# Altium footprint library JP.PcbLib: 182 footprints (part 11 of 12)
Each footprint in its own frame and in the unit in brackets; x right, y up, seen from the top. Pads: shape width x height; smd on the part's side, far side on the other; paste and mask are expansions set on the pad; w line width, h text height; cw(c..) or ccw(c..) is an arc to the next point about the centre after c.
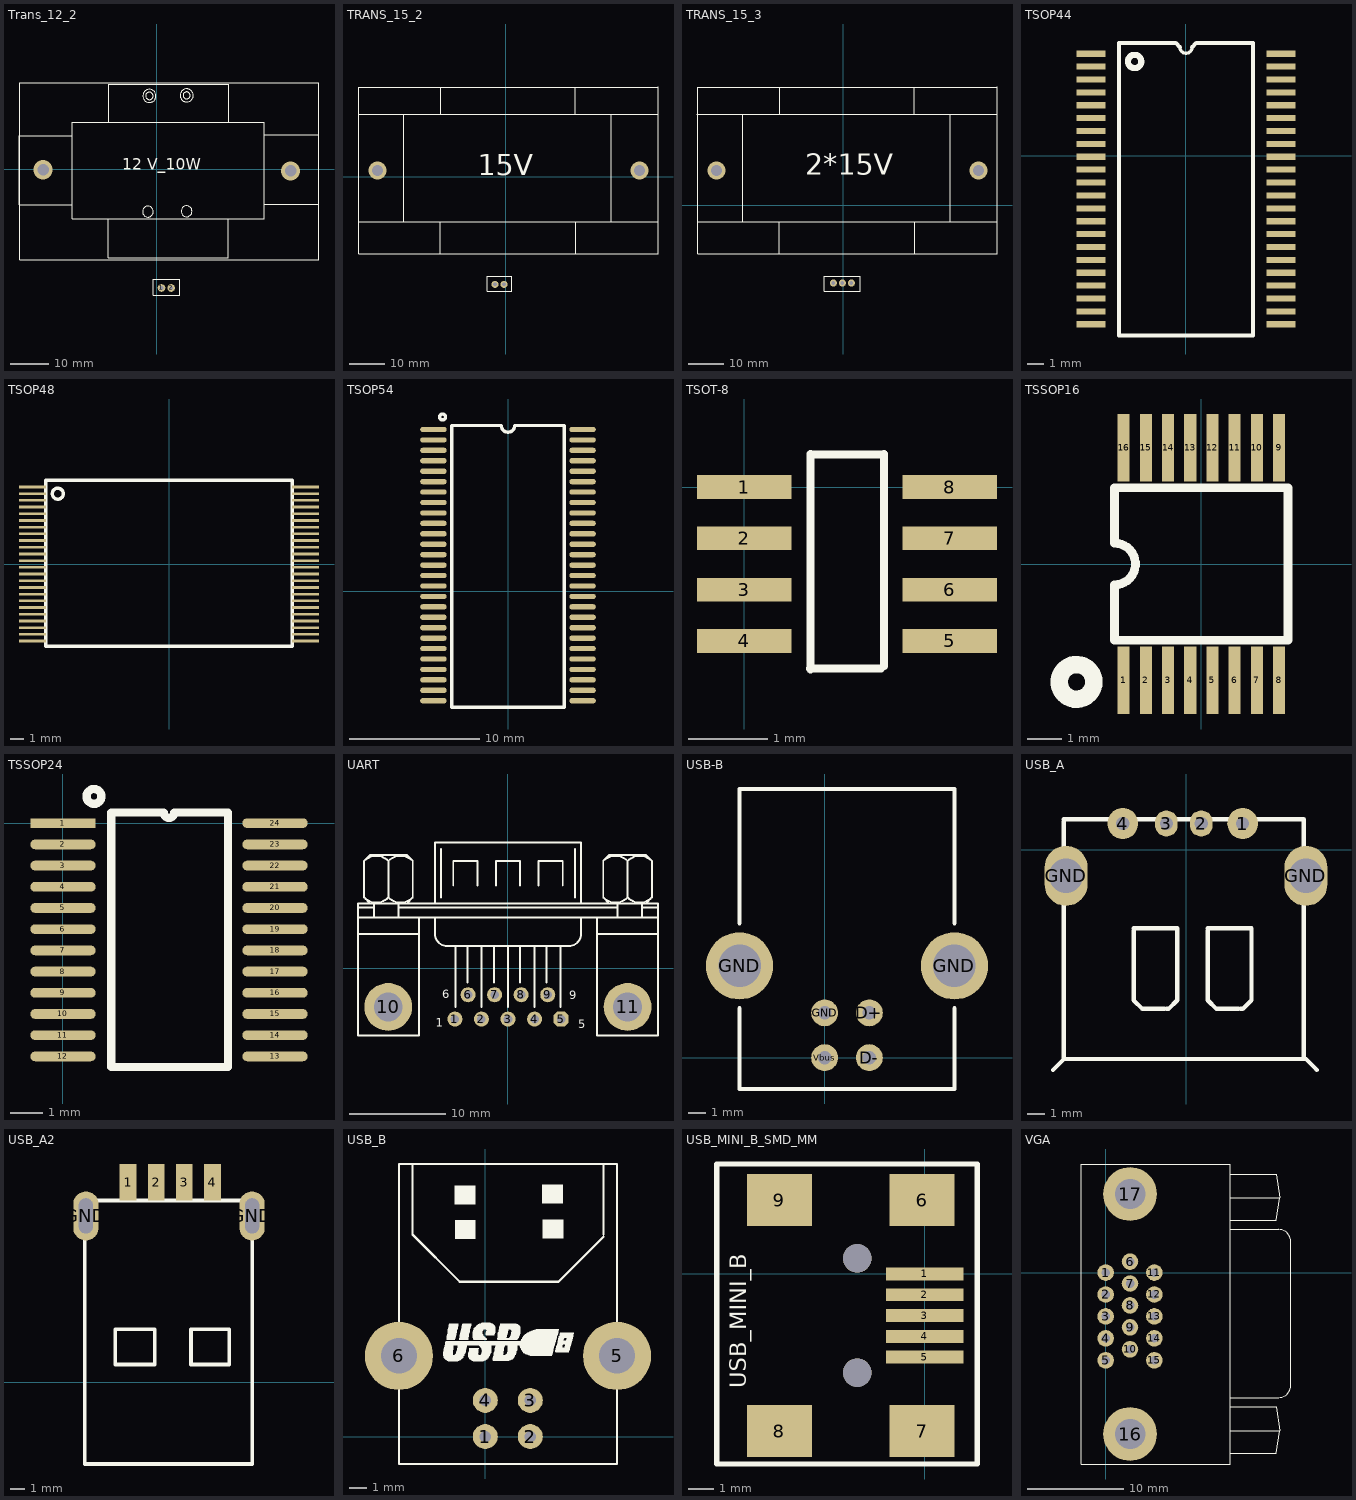
[diagram p10: the footprints below, top view; thin cyan lines are the x and y axes]

## Trans_12_2 [mm]
pads (2):
  round 2 hole 1: 1(1.29,-31.01) 2(3.83,-31.01)
via 35.09,-0.39 diameter 5 hole 3
via -29.67,-0.09 diameter 5 hole 3
Top Overlay:
  circle w0.254: c7.866,19.355 r0.93
  circle w0.254: c-1.875,19.225 r0.971
  circle w0.254: c7.886,19.365 r1.717
  circle w0.254: c-1.874,19.235 r1.717
  circle w0.254: c7.871,-10.955 r1.415
  circle w0.254: c-2.256,-11.035 r1.422
  lines w0.25: -22.104,8.749 -35.982,8.749 -35.982,-0.268 -35.982,-9.285 -22.084,-9.285 ; -12.614,-13.095 -12.614,-23.128 18.755,-23.128 18.755,-13.095 ; -12.487,12.305 -12.487,22.338 18.882,22.338 18.882,12.305 ; 28.056,9.065 42.377,9.065 42.377,-0.141 42.377,-9.158 28.116,-9.158 ; -35.834,-23.636 42.496,-23.636 42.496,22.725 -35.834,22.725 -35.834,-23.636 ; -22.094,-12.968 -22.094,0.285 -22.094,12.305 28.176,12.305 28.176,0.852 28.176,-12.968 -22.094,-12.968 ; -0.84,-32.97 6.02,-32.97 6.02,-28.75 -0.84,-28.75 -0.84,-32.97
  text "12 V_10W" at -9.024,-0.045 h3

## TRANS_15_2 [mm]
pads (2):
  round 2 hole 1: 1(-3.08,-30.33) 2(-0.54,-30.33)
via -36.21,1.76 diameter 5 hole 3
via 37.66,1.76 diameter 5 hole 3
Top Overlay:
  lines w0.25: -41.686,17.62 42.604,17.62 ; -41.432,-12.733 42.858,-12.733 ; -28.732,-12.733 -28.732,17.62 ; -18.445,-12.977 -18.445,-21.75 19.655,-21.75 19.655,-12.733 ; -18.318,25.25 -18.318,17.62 19.528,17.62 19.528,25.25 ; 29.688,-12.733 29.688,17.62 ; 42.858,-21.75 -41.432,-21.75 -41.432,25.25 42.858,25.25 ; 42.858,-21.623 42.858,25.377 ; -5.21,-32.29 -5.21,-28.04 1.65,-28.04 1.65,-32.29 -5.21,-32.29
  text "15V" at -7.97,-1.59 h10

## TRANS_15_3 [mm]
pads (3):
  round 2 hole 1: 1(-2.84,-21.87) 2(-0.3,-21.87) 3(2.24,-21.87)
via -35.8,9.84 diameter 5 hole 3
via 38.07,9.84 diameter 5 hole 3
Top Overlay:
  lines w0.25: -41.276,25.7 43.014,25.7 ; -41.022,-4.653 43.268,-4.653 ; -28.322,-4.653 -28.322,25.7 ; -18.035,-4.897 -18.035,-13.67 20.065,-13.67 20.065,-4.653 ; -17.908,33.33 -17.908,25.7 19.938,25.7 19.938,33.33 ; 30.098,-4.653 30.098,25.7 ; 43.268,-13.67 -41.022,-13.67 -41.022,33.33 43.268,33.33 ; 43.268,-13.543 43.268,33.457 ; -5.38,-24.21 -5.38,-19.96 4.78,-19.96 4.78,-24.21 -5.38,-24.21
  text "2*15V" at -10.78,6.62 h10

## TSOP44 [mil] "贴片"
pads (44):
  rect 72x15 smd: 1(-231.5,249.21) 2(-231.5,217.72) 3(-231.5,186.22) 4(-231.5,154.72) 5(-231.5,123.23) 6(-231.5,91.73) 7(-231.5,60.24) 8(-231.5,28.74) 9(-231.5,-2.76) 10(-231.5,-34.25) 11(-231.5,-65.75) 12(-231.5,-97.24) 13(-231.5,-128.74) 14(-231.5,-160.24) 15(-231.5,-191.73) 16(-231.5,-223.23) 17(-231.5,-254.73) 18(-231.5,-286.22) 19(-231.5,-317.72) 20(-231.5,-349.21) 21(-231.5,-380.71) 22(-231.5,-412.21) 23(233.07,-412.21) 24(233.07,-380.71) 25(233.07,-349.21) 26(233.07,-317.72) 27(233.07,-286.22) 28(233.07,-254.73) 29(233.07,-223.23) 30(233.07,-191.73) 31(233.07,-160.24) 32(233.07,-128.74) 33(233.07,-97.24) 34(233.07,-65.75) 35(233.07,-34.25) 36(233.07,-2.76) 37(233.07,28.74) 38(233.07,60.24) 39(233.07,91.73) 40(233.07,123.23) 41(233.07,154.72) 42(233.07,186.22) 43(233.07,217.72) 44(233.07,249.21)
Top Overlay:
  lines w7.87: -13.96,264.96 ccw(c0.79,264.96) 15.54,264.96
  lines w10: -13.96,264.96 -24.2,275.2 -163.19,275.2 -163.19,-439.37 164.76,-439.37 164.76,275.2 25.77,275.2 15.54,264.96
  lines w15: -108.5,230.21 cw(c-124.8,230.21) -108.51,230.89
3D body: height 39.37, standoff 0, extent -168.19,-444.37 169.76,280.2

## TSOP48 [mm]
pads (48):
  rect 2x0.2 smd: 1(-10.2,5.75) 2(-10.2,5.25) 3(-10.2,4.75) 4(-10.2,4.25) 5(-10.2,3.75) 6(-10.2,3.25) 7(-10.2,2.75) 8(-10.2,2.25) 9(-10.2,1.75) 10(-10.2,1.25) 11(-10.2,0.75) 12(-10.2,0.25) 13(-10.2,-0.25) 14(-10.2,-0.75) 15(-10.2,-1.25) 16(-10.2,-1.75) 17(-10.2,-2.25) 18(-10.2,-2.75) 19(-10.2,-3.25) 20(-10.2,-3.75) 21(-10.2,-4.25) 22(-10.2,-4.75) 23(-10.2,-5.25) 24(-10.2,-5.75) 25(10.2,-5.75) 26(10.2,-5.25) 27(10.2,-4.75) 28(10.2,-4.25) 29(10.2,-3.75) 30(10.2,-3.25) 31(10.2,-2.75) 32(10.2,-2.25) 33(10.2,-1.75) 34(10.2,-1.25) 35(10.2,-0.75) 36(10.2,-0.25) 37(10.2,0.25) 38(10.2,0.75) 39(10.2,1.25) 40(10.2,1.75) 41(10.2,2.25) 42(10.2,2.75) 43(10.2,3.25) 44(10.2,3.75) 45(10.2,4.25) 46(10.2,4.75) 47(10.2,5.25) 48(10.2,5.75)
Top Overlay:
  circle w0.254: c-8.3,5.25 r0.412
  lines w0.25: -9.2,-6.15 -9.2,6.25 9.2,6.25 9.2,-6.15 -9.2,-6.15
3D body: height 1, standoff 0, extent -9.199,-6.149 9.199,6.249

## TSOP54 [mil]
height 200
pads (54):
  oval 80x16 smd: 1(-225,488.25) 2(-225,456.75) 3(-225,425.25) 4(-225,393.75) 5(-225,362.25) 6(-225,330.75) 7(-225,299.25) 8(-225,267.75) 9(-225,236.25) 10(-225,204.75) 11(-225,173.25) 12(-225,141.75) 13(-225,110.25) 14(-225,78.75) 15(-225,47.25) 16(-225,15.75) 17(-225,-15.75) 18(-225,-47.25) 19(-225,-78.75) 20(-225,-110.25) 21(-225,-141.75) 22(-225,-173.25) 23(-225,-204.75) 24(-225,-236.25) 25(-225,-267.75) 26(-225,-299.25) 27(-225,-330.75) 28(225,-330.75) 29(225,-299.25) 30(225,-267.75) 31(225,-236.25) 32(225,-204.75) 33(225,-173.25) 34(225,-141.75) 35(225,-110.25) 36(225,-78.75) 37(225,-47.25) 38(225,-15.75) 39(225,15.75) 40(225,47.25) 41(225,78.75) 42(225,110.25) 43(225,141.75) 44(225,173.25) 45(225,204.75) 46(225,236.25) 47(225,267.75) 48(225,299.25) 49(225,330.75) 50(225,362.25) 51(225,393.75) 52(225,425.25) 53(225,456.75) 54(225,488.25)
Top Overlay:
  circle w10: c-197.56,525.98 r8.98
  lines w10: -170,-350 -170,500 -20,500 ccw(c0,500) 20,500 170,500 170,-350 -170,-350
3D body: height 39.37, standoff 0, extent -170.02,-350.02 170.02,500.02

## TSOT-8 [mm]
pads (8):
  rect 1.2x0.3 smd: 1(0,0) 2(0,-0.65) 3(0,-1.3) 4(0,-1.95) 5(2.6,-1.95) 6(2.6,-1.3) 7(2.6,-0.65) 8(2.6,0)
Top Overlay:
  lines w0.1: 0.83,-2.3 1.73,-2.3 ; 0.84,-2.31 0.84,0.42 ; 0.84,0.41 1.76,0.41 ; 1.77,-2.27 1.77,0.42

## TSSOP16 [mm]
pads (16):
  rect 0.35x1.95 smd: 1(-2.24,-3.35) 2(-1.6,-3.35) 3(-0.96,-3.35) 4(-0.32,-3.35) 5(0.32,-3.35) 6(0.96,-3.35) 7(1.6,-3.35) 8(2.24,-3.35) 9(2.24,3.35) 10(1.6,3.35) 11(0.96,3.35) 12(0.32,3.35) 13(-0.32,3.35) 14(-0.96,3.35) 15(-1.6,3.35) 16(-2.24,3.35)
Top Overlay:
  circle w0.5: c-3.6,-3.4 r0.5
  lines w0.254: -2.5,-2.2 2.5,-2.2 2.5,2.2 -2.5,2.2 -2.5,0.6 cw(c-2.5,0) -2.5,-0.6 -2.5,-2.2
3D body: height 1, standoff 0, extent -2.501,-2.201 2.501,2.201

## TSSOP24 [mm]
pads (24):
  rect 2x0.3 smd: 1(0,0)
  oval 2x0.3 smd: 2(0,-0.65) 3(0,-1.3) 4(0,-1.95) 5(0,-2.6) 6(0,-3.25) 7(0,-3.9) 8(0,-4.55) 9(0,-5.2) 10(0,-5.85) 11(0,-6.5) 12(0,-7.15) 13(6.5,-7.15) 14(6.5,-6.5) 15(6.5,-5.85) 16(6.5,-5.2) 17(6.5,-4.55) 18(6.5,-3.9) 19(6.5,-3.25) 20(6.5,-2.6) 21(6.5,-1.95) 22(6.5,-1.3) 23(6.5,-0.65) 24(6.5,0)
Top Overlay:
  circle w0.254: c0.952,0.82 r0.228
  lines w0.254: 1.48,-7.475 1.48,0.325 3.087,0.325 ccw(c3.25,0.325) 3.412,0.325 5.06,0.325 5.06,-7.475 1.48,-7.475
3D body: height 1, standoff 0, extent 1.479,-7.476 5.061,0.326

## UART [mil]
pads (11):
  round 62 hole 35: 1(-218.28,-209.25) 2(-109.11,-209.25) 3(0.05,-209.25) 4(109.22,-209.25) 6(-164.11,-109.25) 7(-54.95,-109.25) 8(54.22,-109.25) 9(163.39,-109.25)
  oct 62x62 hole 35: 5(218.39,-209.25)
  round 196.67 hole 118.33: 10(-492.45,-159.25) 11(491.72,-159.25)
Top Overlay:
  lines w8: -616.61,140.75 -366.61,140.75 ; -616.61,207.41 616.72,207.41 ; -616.61,249.08 -549.95,249.08 ; -591.7,290.66 ccw(c-541.61,340.75) -491.53,290.66 ; -591.7,440.83 cw(c-541.61,390.75) -491.53,440.83 ; -566.61,265.75 -591.61,290.75 -591.61,440.75 -566.61,465.75 -416.61,465.75 -391.61,440.75 -391.61,290.75 -416.61,265.75 ; -549.95,207.41 -549.95,265.75 ; -491.7,290.66 ccw(c-441.61,340.75) -391.53,290.66 ; -491.7,440.83 cw(c-441.61,390.75) -391.53,440.83 ; -491.61,290.75 -491.61,440.75 ; -449.95,207.41 -449.95,265.75 ; -449.95,249.08 450.05,249.08 ; -366.61,207.41 -366.61,-275.92 -616.61,-275.92 -616.61,265.75 616.72,265.75 616.72,-275.92 366.72,-275.92 366.72,207.41 ; -299.95,207.41 -299.95,140.75 ccw(c-249.95,140.75) -249.95,90.75 250.05,90.75 ccw(c250.05,140.75) 300.05,140.75 300.05,207.41 ; -299.95,265.75 -299.95,515.75 300.05,515.75 300.05,265.75 ; -274.95,290.75 -274.95,490.75 ; -224.95,340.75 -224.95,440.75 -124.95,440.75 -124.95,340.75 ; -216.61,-159.25 -216.61,90.75 ; -166.61,-59.25 -166.61,90.75 ; -108.28,-159.25 -108.28,90.75 ; -58.28,-59.25 -58.28,90.75 ; -49.95,340.75 -49.95,440.75 50.05,440.75 50.05,340.75 ; 0.05,-159.25 0.05,90.75 ; 50.05,-59.25 50.05,90.75 ; 108.39,-159.25 108.39,90.75 ; 125.05,340.75 125.05,440.75 225.05,440.75 225.05,340.75 ; 158.39,-59.25 158.39,90.75 ; 216.72,-159.25 216.72,90.75 ; 275.05,290.75 275.05,490.75 ; 366.72,140.75 616.72,140.75 ; 391.63,290.66 ccw(c441.72,340.75) 491.81,290.66 ; 391.63,440.83 cw(c441.72,390.75) 491.81,440.83 ; 416.72,265.75 391.72,290.75 391.72,440.75 416.72,465.75 566.72,465.75 591.72,440.75 591.72,290.75 566.72,265.75 ; 450.05,207.41 450.05,265.75 ; 491.63,290.66 ccw(c541.72,340.75) 591.81,290.66 ; 491.63,440.83 cw(c541.72,390.75) 591.81,440.83 ; 491.72,290.75 491.72,440.75 ; 550.05,207.41 550.05,265.75 ; 550.05,249.08 616.72,249.08
  text "1" at -296.18,-241.54 h35
  text "6" at -270.2,-124.61 h35
  text "5" at 289.25,-247.44 h35
  text "9" at 251.85,-127.76 h35
3D body: height 236.22, standoff 0, extent 366.74,-275.9 616.93,207.48
3D body: height 236.22, standoff 0, extent -616.59,-275.9 -366.54,205.12
3D body: height 236.22, standoff 118.11, extent -617.32,207.87 615.35,251.18
3D body: height 236.22, standoff 118.11, extent -299.93,265.77 300.03,515.73
3D body: height 236.22, standoff 0, extent -368.9,-277.56 367.32,207.87
3D body: height 0, standoff 0, extent -49.97,340.73 50.07,440.77
3D body: height 236.22, standoff 118.11, extent -589.3,271.06 -388.98,475
3D body: height 236.22, standoff 118.11, extent 392.59,281.3 592.91,485.24

## USB-B [mil]
pads (6):
  round 60 hole 30: D+(100,100) D-(100,0) GND(0,100) Vbus(0,0)
  round 150 hole 95: GND(-190,205) GND(290,205)
Top Overlay:
  lines w9.84: -190,110 -190,-70 0,-70 290,-70 290,110 ; -190,300 -190,600 290,600 290,300
3D body: height 393.7, standoff 0, extent -194.92,-74.92 294.92,604.92

## USB_A [mil]
pads (6):
  round 70.87 hole 30: 1(130,60) 4(-145,60)
  oval 52.13x60 hole 30: 2(35,60) 3(-45,60)
  oval 98.42x137.79 hole 78.74: GND(-275,-60) GND(275,-60)
Top Overlay:
  lines w9.84: -305,-505 -280,-480 ; -280,65 -280,-480 ; -280,70 270,70 270,-480 ; -120,-185 -120,-345 -100,-365 -50,-365 ; -120,-180 -20,-180 -20,-345 -40,-365 -45,-365 ; 50,-185 50,-345 70,-365 120,-365 ; 50,-180 150,-180 150,-345 130,-365 125,-365 ; 300,-505 275,-480 270,-480 ; -280,-480 270,-480
3D body: height 118.11, standoff 0, extent -309.92,-509.92 304.92,74.92

## USB_A2 [mm]
pads (6):
  rect 1.2x2.6 smd: 1(-21.9,14.27) 2(-19.9,14.27) 3(-17.9,14.27) 4(-15.9,14.27)
  oval 1.8x3.5 hole 1 slot 2.5 at 90 deg: GND(-24.91,11.87) GND(-13.07,11.87)
Top Overlay:
  lines w0.254: -24.99,12.95 -24.99,-5.81 -13.06,-5.81 -13.06,12.97 -24.98,12.97 ; -22.82,1.28 -20.01,1.28 -20.01,3.79 -22.82,3.79 -22.82,1.28 ; -17.42,1.28 -17.42,3.79 -14.7,3.79 -14.7,1.28 -17.42,1.28
3D body: height 3, standoff 0, extent -25.117,-5.937 -12.933,13.097

## USB_B [mil]
pads (6):
  round 55 hole 25: 1(0,0) 2(99,0) 3(99,79.74) 4(0,79.74)
  round 150 hole 78.74: 5(290,177.74) 6(-190,177.74)
Top Overlay:
  drawing of 1016 lines, arcs and shapes, not listed

## USB_MINI_B_SMD_MM [mm]
pads (11):
  rect 3x0.5 smd: 1(0,0) 2(0,-0.8) 3(0,-1.6) 4(0,-2.4) 5(0,-3.2)
  rect 2.5x2 smd: 6(-0.1,2.85) 7(-0.1,-6.05) 8(-5.6,-6.05) 9(-5.6,2.85)
  round 1.1 hole 1.1: ""(-2.6,-3.8) ""(-2.6,0.6)
Top Overlay:
  lines w0.2: -8.013,-7.32 -7.942,-7.32 2.02,-7.32 2.02,3.348 2.02,4.237 1.258,4.237 -8.013,4.237 -8.013,3.983 -8.013,-0.208 -8.013,-7.32
  text "USB_MINI_B" at -6.87,-4.399 h0.64

## VGA [mil]
pads (17):
  round 68 hole 35: 1(0,0) 2(0,-90) 3(0,-180) 4(0,-270) 5(0,-360) 6(100,45) 7(100,-45) 8(100,-135) 9(100,-225) 10(100,-315) 11(200,0) 12(200,-90) 13(200,-180) 14(200,-270) 15(200,-360)
  round 220 hole 125: 16(100,-662) 17(100,322)
Top Overlay:
  lines w5: 510,-504 510,136 ; 510.24,441 510.24,445 ; 511,-740 699,-740 713,-648 ; 511,-648 713,-648 ; 511,-550 699,-550 713,-648 ; 511,-512.49 709,-512.49 ccw(c709,-462.49) 759,-462.49 759,126.49 ccw(c709,126.49) 709,176.49 511,176.49 ; 511,214 699,214 713,306 ; 511,306 713,306 ; 511,404 699,404 713,306 ; 510.24,445 -100,445 -100,-785 510.24,-785 510.24,445